# Altium footprint library PcbLib2.PcbLib: 14 footprints
Each footprint in its own frame and in the unit in brackets; x right, y up, seen from the top. Pads: shape width x height; smd on the part's side, far side on the other; paste and mask are expansions set on the pad; w line width, h text height; cw(c..) or ccw(c..) is an arc to the next point about the centre after c.
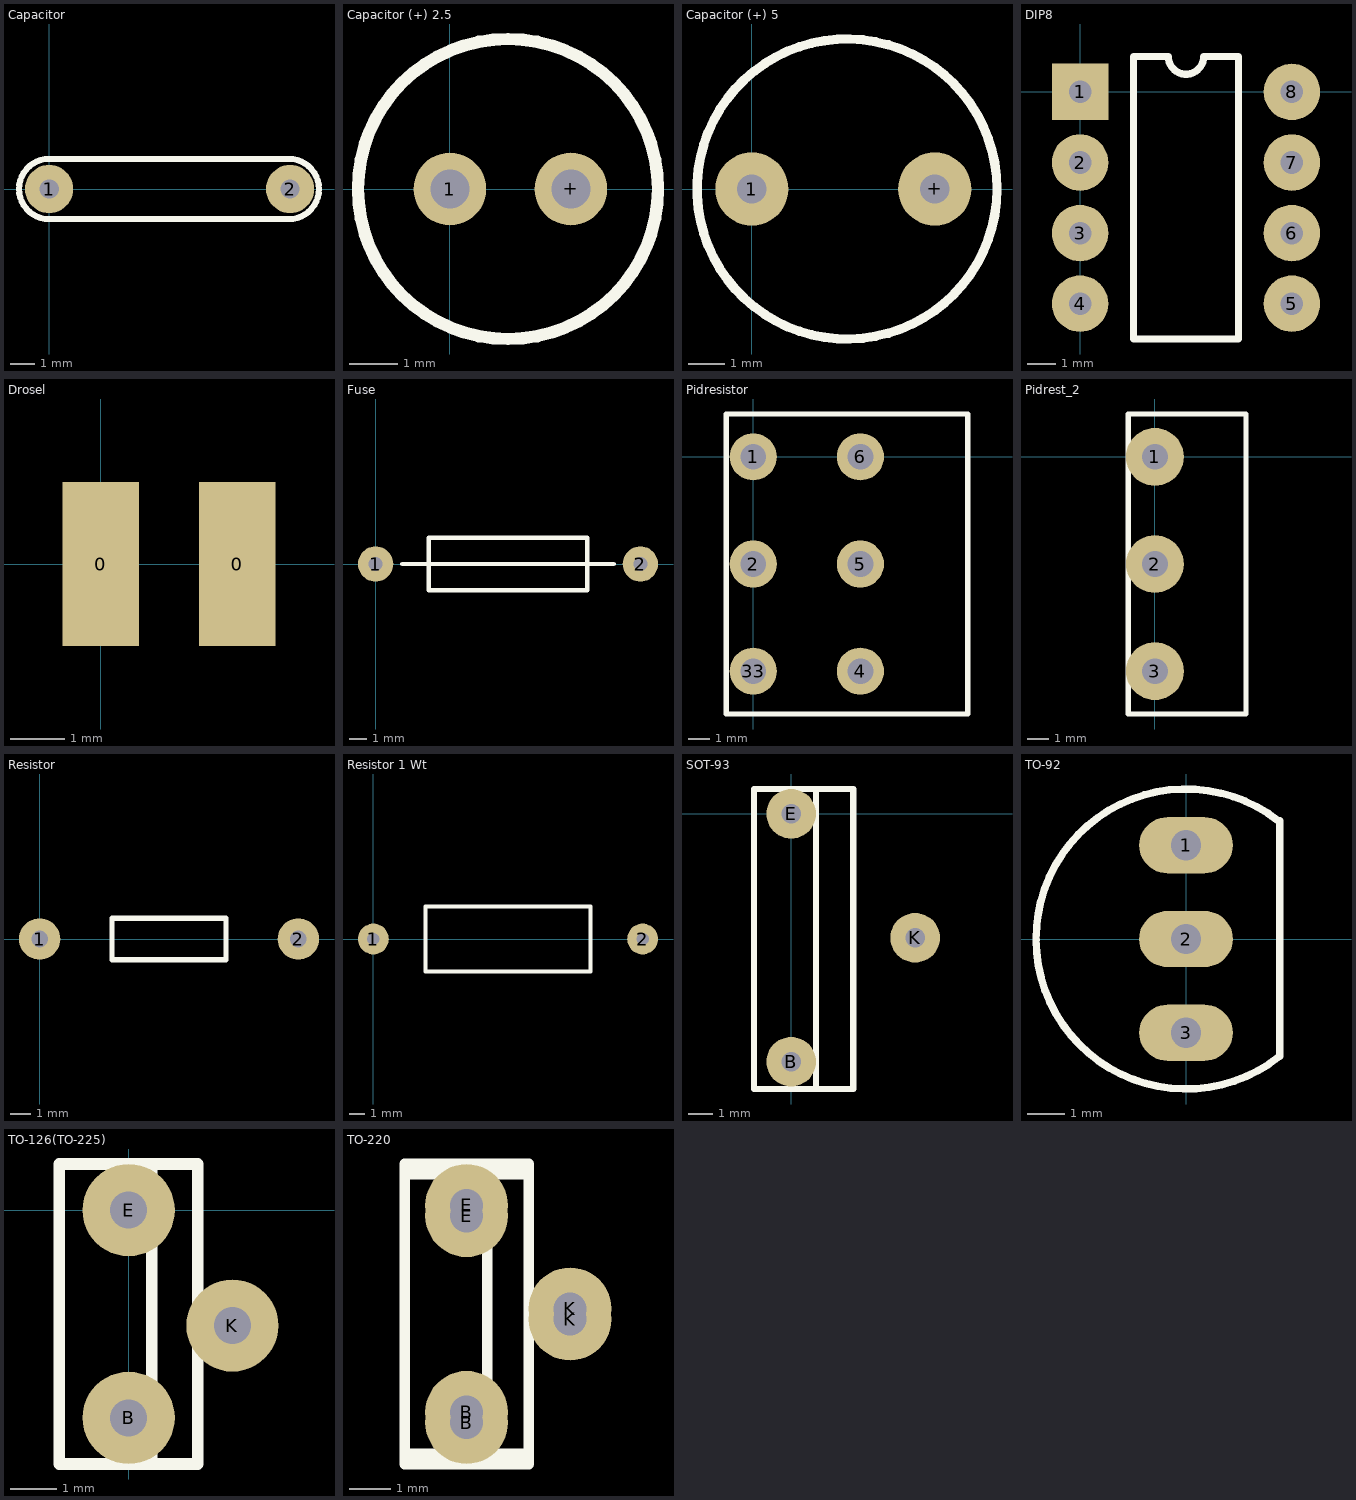
[diagram p0: the footprints below, top view; thin cyan lines are the x and y axes]

## Capacitor [mm]
pads (2):
  round 2 hole 0.8: 1(0,0) 2(10,0)
Top Overlay:
  lines w0.254: 9.95,-1.25 ccw(c9.95,0) 11.2,0 ccw(c9.95,0) 9.95,1.25 ; 10.05,-1.25 0,-1.25 cw(c0,0) -1.25,0 cw(c0,0) 0,1.25 10.05,1.25

## Capacitor (+) 2.5 [mm]
pads (2):
  round 1.5 hole 0.8: 1(0,0) +(2.5,0)
Top Overlay:
  circle w0.254: c1.2,0 r3.1

## Capacitor (+) 5 [mm]
pads (2):
  round 2 hole 0.8: 1(0,0) +(5,0)
Top Overlay:
  circle w0.254: c2.6,0 r4.1

## DIP8 [mm]
pads (8):
  rect 2x2 hole 0.8: 1(0,0)
  round 2 hole 0.8: 2(0,-2.5) 3(0,-5) 4(0,-7.5) 5(7.5,-7.5) 6(7.5,-5) 7(7.5,-2.5) 8(7.5,0)
Top Overlay:
  lines w0.254: 1.889,-8.75 1.889,1.25 3.125,1.25 ccw(c3.75,1.25) 4.375,1.25 5.611,1.25 5.611,-8.75 1.889,-8.75

## Drosel [mm]
pads (2):
  rect 1.4x3 smd: 0(0,0) 0(2.5,0)

## Fuse [mm]
pads (2):
  round 2 hole 0.8: 1(0,0) 2(15,0)
Top Overlay:
  lines w0.254: 1.5,0 13.5,0 ; 3,-1.5 3,1 ; 3,-1.5 12,-1.5 ; 3,-1.5 3,1 ; 3,1 3,1.5 12,1.5 12,0 ; 12,-1.5 12,-1.5 ; 12,-1.5 12,0 ; 12,0 12,0

## Pidresistor [mm]
pads (6):
  round 2.2 hole 1.2: 1(0,0) 2(0,-5) 4(5,-10) 5(5,-5) 6(5,0) 33(0,-10)
Top Overlay:
  lines w0.254: -1.25,-12 -1.25,2 10,2 10,-12 -1.25,-12

## Pidrest_2 [mm]
pads (3):
  round 2.7 hole 1.2: 1(0,0) 2(0,-5) 3(0,-10)
Top Overlay:
  lines w0.254: -1.25,-12 -1.25,2 4.25,2 4.25,-12 -1.25,-12

## Resistor [mm]
pads (2):
  round 2 hole 0.8: 1(0,0) 2(12.5,0)
Top Overlay:
  lines w0.254: 3.5,-1 9,-1 9,1 3.5,1 3.5,-1

## Resistor 1 Wt [mm]
pads (2):
  round 2 hole 0.8: 1(0,0) 2(17.5,0)
Top Overlay:
  lines w0.254: 3.4,-2.1 14.1,-2.1 14.1,2.1 3.4,2.1 3.4,-2.1

## SOT-93 [mm]
pads (3):
  round 2 hole 0.8: B(0,-10) E(0,0) K(5,-5)
Top Overlay:
  lines w0.254: 1,-11.1 1,1 ; -1.5,-11.1 -1.5,1 2.5,1 2.5,-11.1 -1.5,-11.1

## TO-92 [mm]
pads (3):
  oval 2.5x1.5 hole 0.8: 1(0,2.5) 2(0,0) 3(0,-2.5)
Top Overlay:
  lines w0.2: 2.468,3.148 ccw(c0,0) 2.489,-3.131 ; 2.5,-3.131 2.5,3.148

## TO-126(TO-225) [mm]
pads (3):
  round 2 hole 0.8: B(0,-4.5) E(0,0) K(2.25,-2.5)
Top Overlay:
  lines w0.254: 0.5,-5.5 0.5,1 ; -1.5,-5.5 1.5,-5.5 1.5,1 -1.5,1 -1.5,-5.5

## TO-220 [mm]
pads (6):
  round 2 hole 0.8: B(1270,1265) B(1270,1265.25) E(1270,1270) E(1270,1270.25) K(1272.5,1267.5) K(1272.5,1267.75)
Top Overlay:
  lines w0.254: 1270.5,1264 1270.5,1271 ; 1270.5,1264.25 1270.5,1271.25 ; 1268.5,1264 1268.5,1271 1271.5,1271 1271.5,1264 1268.5,1264 ; 1268.5,1264.25 1268.5,1271.25 1271.5,1271.25 1271.5,1264.25 1268.5,1264.25